# EAGLE library part BQ2057TTS (library jabinder)
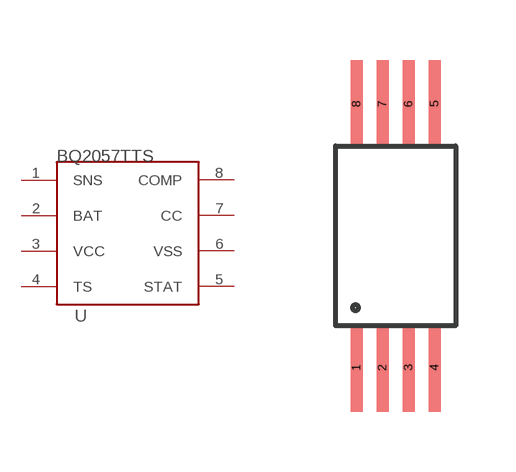
[diagram p2: symbol with the pads of TSSOP-8; footprint TSSOP-8]

Designator prefix -

## BQ2057TTS  [TSSOP-8]
1  SNS
2  BAT
3  VCC
4  TS
5  STAT
6  VSS
7  CC
8  COMP

## Footprint TSSOP-8 (pad centres in mm)
smd 0.3 x 2.2: 1 -0.975,-3.3; 2 -0.325,-3.3; 3 0.325,-3.3; 4 0.975,-3.3; 5 0.975,3.3; 6 0.325,3.3; 7 -0.325,3.3; 8 -0.975,3.3